# Altium footprint library eitp15_lab1_lib.PcbLib: 15 footprints
Each footprint in its own frame and in the unit in brackets; x right, y up, seen from the top. Pads: shape width x height; smd on the part's side, far side on the other; paste and mask are expansions set on the pad; w line width, h text height; cw(c..) or ccw(c..) is an arc to the next point about the centre after c.
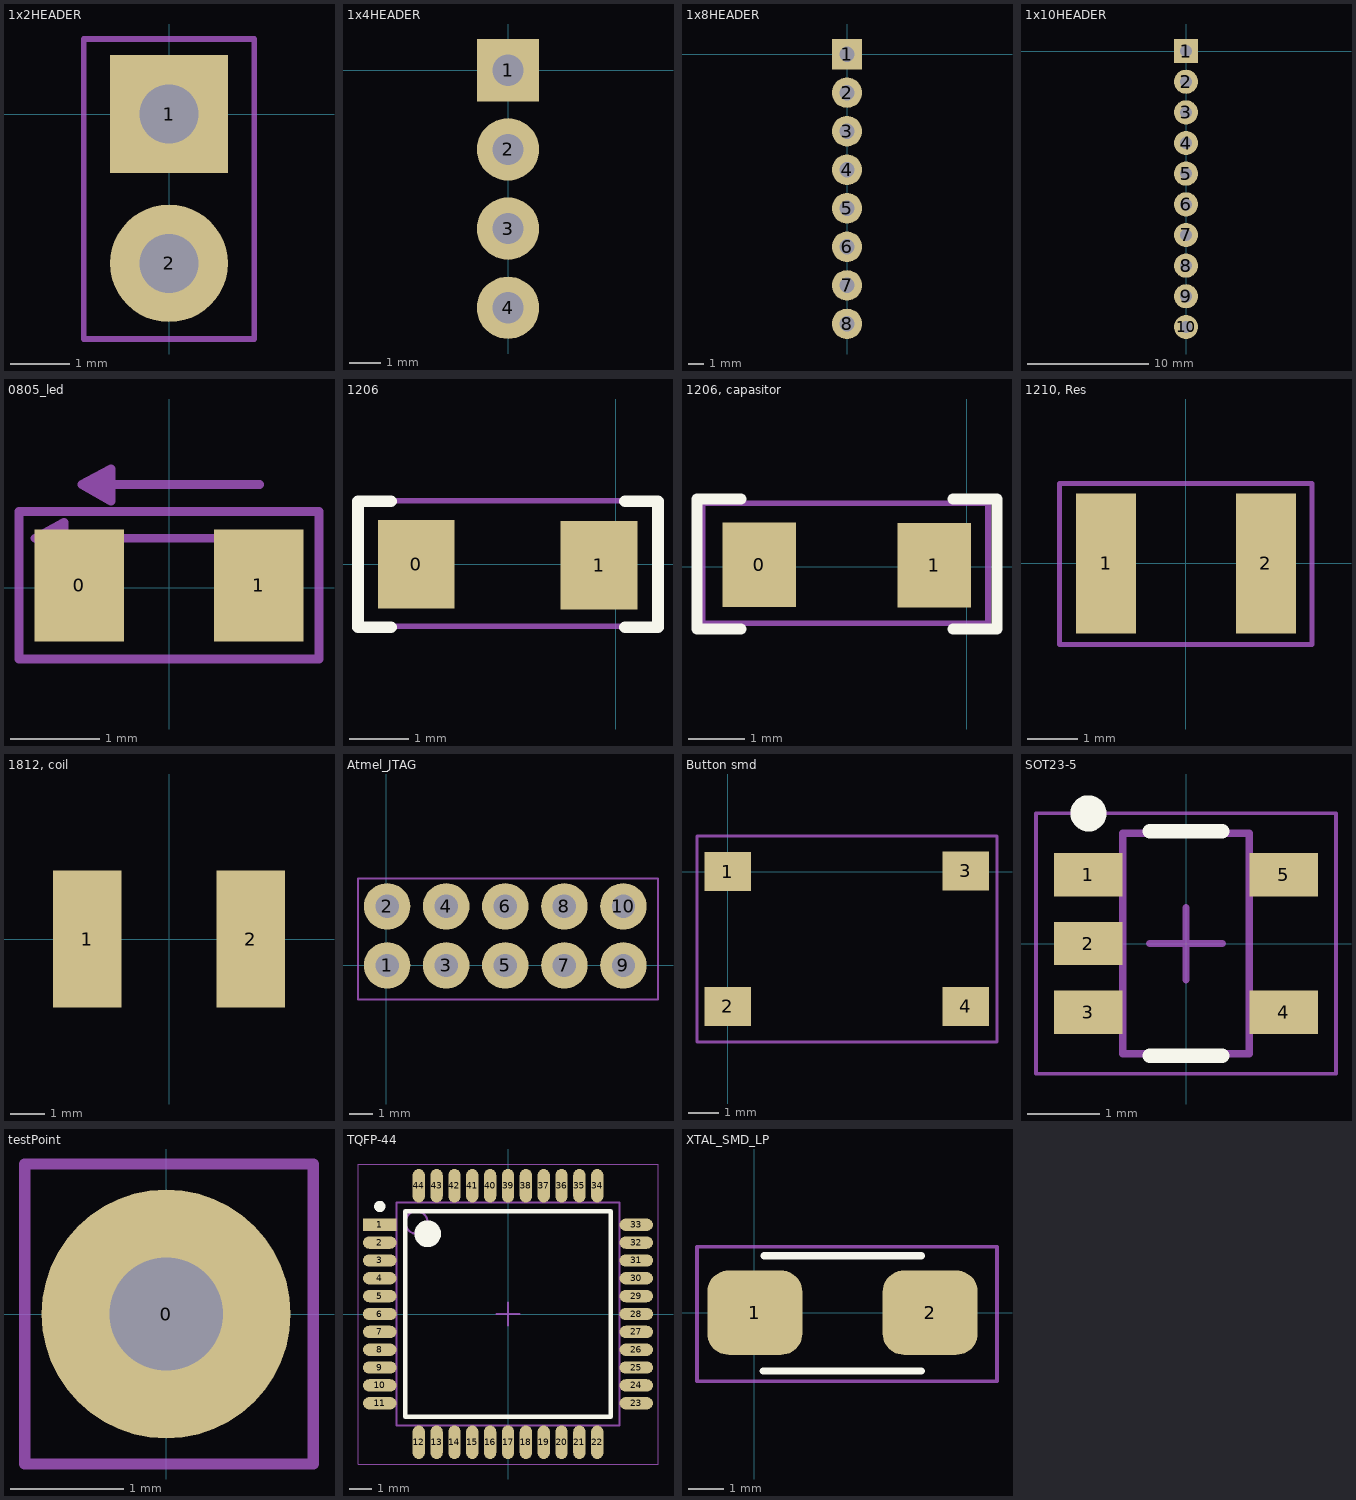
[diagram p0: the footprints below, top view; thin cyan lines are the x and y axes]

## 1x2HEADER [mm] "Pad Diameter 2 mm, Hole  1 mm, Pitch 2.54 mm"
pads (2):
  rect 2x2 hole 1: 1(0,0)
  round 2 hole 1: 2(0,-2.54)
Mechanical 13:
  lines w0.1: -1.45,-3.825 -1.45,1.275 1.45,1.275 1.45,-3.825 -1.45,-3.825
  text ".Designator" at 0.35,-3.275 h1
3D body "User Library-Header Vertical 2_54mm Pitch2-1.STEP": height 5.94, standoff -2.94, extent -1.27,-3.81 1.27,-1.27
3D body "User Library-Header Vertical 2_54mm Pitch2-1.STEP": height 5.94, standoff -2.94, extent -1.27,-1.27 1.27,1.27

## 1x4HEADER [mm] "Pad Diameter 2 mm, Hole  1 mm, Pitch 2.54 mm"
pads (4):
  rect 2x2 hole 1: 1(0,0)
  round 2 hole 1: 2(0,-2.54) 3(0,-5.08) 4(0,-7.62)
3D body "User Library-Header Vertical 2_54mm Pitch2-1.STEP": height 5.94, standoff -2.94, extent -1.27,-3.81 1.27,-1.27
3D body "User Library-Header Vertical 2_54mm Pitch2-1.STEP": height 5.94, standoff -2.94, extent -1.27,-1.27 1.27,1.27
3D body "User Library-Header Vertical 2_54mm Pitch2-1.STEP": height 5.94, standoff -2.94, extent -1.27,-6.35 1.27,-3.81
3D body "User Library-Header Vertical 2_54mm Pitch2-1.STEP": height 5.94, standoff -2.94, extent -1.27,-8.89 1.27,-6.35

## 1x8HEADER [mm] "Pad Diameter 2 mm, Hole  1 mm, Pitch 2.54 mm"
pads (8):
  rect 2x2 hole 1: 1(0,0)
  round 2 hole 1: 2(0,-2.54) 3(0,-5.08) 4(0,-7.62) 5(0,-10.16) 6(0,-12.7) 7(0,-15.24) 8(0,-17.78)
3D body "User Library-Header Vertical 2_54mm Pitch2-1.STEP": height 5.94, standoff -2.94, extent -1.27,-19.05 1.27,-16.51
3D body "User Library-Header Vertical 2_54mm Pitch2-1.STEP": height 5.94, standoff -2.94, extent -1.27,-16.51 1.27,-13.97
3D body "User Library-Header Vertical 2_54mm Pitch2-1.STEP": height 5.94, standoff -2.94, extent -1.27,-13.97 1.27,-11.43
3D body "User Library-Header Vertical 2_54mm Pitch2-1.STEP": height 5.94, standoff -2.94, extent -1.27,-11.43 1.27,-8.89
3D body "User Library-Header Vertical 2_54mm Pitch2-1.STEP": height 5.94, standoff -2.94, extent -1.27,-8.89 1.27,-6.35
3D body "User Library-Header Vertical 2_54mm Pitch2-1.STEP": height 5.94, standoff -2.94, extent -1.27,-6.35 1.27,-3.81
3D body "User Library-Header Vertical 2_54mm Pitch2-1.STEP": height 5.94, standoff -2.94, extent -1.27,-3.81 1.27,-1.27
3D body "User Library-Header Vertical 2_54mm Pitch2-1.STEP": height 5.94, standoff -2.94, extent -1.27,-1.27 1.27,1.27

## 1x10HEADER [mm] "Pad Diameter 2 mm, Hole  1 mm, Pitch 2.54 mm"
pads (10):
  rect 2x2 hole 1: 1(0,0)
  round 2 hole 1: 2(0,-2.54) 3(0,-5.08) 4(0,-7.62) 5(0,-10.16) 6(0,-12.7) 7(0,-15.24) 8(0,-17.78) 9(0,-20.32) 10(0,-22.86)
3D body "User Library-Header Vertical 2_54mm Pitch2-1.STEP": height 5.94, standoff -2.94, extent -1.27,-21.59 1.27,-19.05
3D body "User Library-Header Vertical 2_54mm Pitch2-1.STEP": height 5.94, standoff -2.94, extent -1.27,-24.13 1.27,-21.59
3D body "User Library-Header Vertical 2_54mm Pitch2-1.STEP": height 5.94, standoff -2.94, extent -1.27,-19.05 1.27,-16.51
3D body "User Library-Header Vertical 2_54mm Pitch2-1.STEP": height 5.94, standoff -2.94, extent -1.27,-16.51 1.27,-13.97
3D body "User Library-Header Vertical 2_54mm Pitch2-1.STEP": height 5.94, standoff -2.94, extent -1.27,-13.97 1.27,-11.43
3D body "User Library-Header Vertical 2_54mm Pitch2-1.STEP": height 5.94, standoff -2.94, extent -1.27,-11.43 1.27,-8.89
3D body "User Library-Header Vertical 2_54mm Pitch2-1.STEP": height 5.94, standoff -2.94, extent -1.27,-8.89 1.27,-6.35
3D body "User Library-Header Vertical 2_54mm Pitch2-1.STEP": height 5.94, standoff -2.94, extent -1.27,-6.35 1.27,-3.81
3D body "User Library-Header Vertical 2_54mm Pitch2-1.STEP": height 5.94, standoff -2.94, extent -1.27,-3.81 1.27,-1.27
3D body "User Library-Header Vertical 2_54mm Pitch2-1.STEP": height 5.94, standoff -2.94, extent -1.27,-1.27 1.27,1.27

## 0805_led [mm]
pads (2):
  rect 1x1.25 smd: 0(-1,0.025) 1(1,0.025)
Mechanical 13:
  lines w0.1: 0.485,0.55 -1.498,0.55 ; 1.01,1.15 -0.972,1.15 ; -1.498,0.55 -1.175,0.725 ; -1.498,0.55 -1.175,0.367 ; -1.175,0.367 -1.175,0.725 ; -1.175,0.367 -1.282,0.55 -1.175,0.725 ; -0.972,1.15 -0.65,0.968 ; -0.972,1.15 -0.65,1.325 ; -0.65,0.968 -0.757,1.15 -0.65,1.325 ; -0.65,0.968 -0.65,1.325 ; -1.675,-0.8 -1.675,0.85 1.675,0.85 1.675,-0.8 -1.675,-0.8
  text ".Designator" at -1.425,-0.65 h0.4
3D body "User Library-led_0805.STEP": height 1.1, standoff 0, extent -1.035,-0.6 0.985,0.65

## 1206 [mm] "Generic 1206"
pads (2):
  rect 1.3x1.5 smd: 0(-3.384,-0.003) 1(-0.286,-0.014)
Top Overlay:
  lines w0.2: -3.81,-1.067 -4.369,-1.067 -4.369,1.067 -3.81,1.067 ; 0.152,-1.067 0.711,-1.067 0.711,1.067 0.152,1.067
Mechanical 13:
  lines w0.1: -4.35,-1.05 0.7,-1.05 0.7,1.075 -4.35,1.075 -4.35,-1.05
  text ".Designator" at -3.6,-0.425 h1
3D body "User Library-R_1206.STEP": height -0.4, standoff -1, extent -3.465,-0.793 -0.265,0.807

## 1206, capasitor [mm] "Generic 1206"
pads (2):
  rect 1.3x1.5 smd: 0(-3.673,0.038) 1(-0.575,0.026)
Top Overlay:
  lines w0.2: -4,-1.1 -4.775,-1.1 -4.775,-1 -4.775,-0.767 -4.775,0.843 -4.775,1.2 -4,1.2 ; -0.242,-1.1 0.533,-1.1 0.533,1.2 -0.242,1.2
Mechanical 13:
  lines w0.1: -4.675,-1 -4.675,1.125 0.375,1.125 0.375,-1 -4.675,-1
  text ".Designator" at -3.925,-0.375 h1
3D body "User Library-cap_1206_0_95.STEP": height -0.55, standoff -1.5, extent -3.776,-0.786 -0.576,0.814

## 1210, Res [mm]
pads (2):
  rect 1.2x2.8 smd: 1(-1.6,0) 2(1.6,0)
Mechanical 13:
  lines w0.1: -2.525,-1.625 -2.525,1.6 2.525,1.6 2.525,-1.625 -2.525,-1.625
  text ".Designator" at -1.775,-0.375 h1
3D body "R_1210.STEP": height 0.6, standoff 0, extent -1.6,-1.25 1.6,1.25

## 1812, coil [mm]
pads (2):
  rect 2x4 smd: 1(-2.385,0) 2(2.385,0)
3D body "cap_1812.step": height 2.6, standoff 0, extent -2.3,-1.6 2.3,1.6

## Atmel_JTAG [mm]
pads (10):
  round 2 hole 1: 1(0.028,-0.01) 2(0.028,2.53) 3(2.568,-0.01) 4(2.568,2.53) 5(5.108,-0.01) 6(5.108,2.53) 7(7.648,-0.01) 8(7.648,2.53) 9(10.188,-0.01) 10(10.188,2.53)
Mechanical 13:
  lines w0.1: -1.225,-1.475 -1.225,3.725 11.675,3.725 11.675,-1.475 -1.225,-1.475
  text ".Designator" at -0.35,0.925 h1
3D body "12539.stp": height 8.6, standoff -3.2, extent -1.147,-1.36 11.553,3.64

## Button smd [mm]
pads (4):
  rect 1.55x1.3 smd: 1(0,0) 2(0,-4.5) 3(7.95,0.023) 4(7.95,-4.5)
Mechanical 13:
  lines w0.1: -1.025,-5.7 -1.025,1.2 9,1.2 9,-5.7 -1.025,-5.7
  text ".Designator" at 0.325,-2.475 h1
3D body "User Library-PTS645SL43SMTR92-LFS.STEP": height 4.3, standoff 0, extent -0.55,-5.25 8.45,0.75

## SOT23-5 [mm] "SOT23, 5-Leads, Body 2,90x2,80mm, Pitch 0,95mm, IPC Medium Density"
height 1.1
pads (5):
  rect 0.95x0.6 smd: 1(-1.35,0.95) 2(-1.35,0) 3(-1.35,-0.95) 4(1.35,-0.95) 5(1.35,0.95)
Top Overlay:
  circle w0.25: c-1.35,1.8 r0.125
  lines w0.2: -0.5,-1.55 0.5,-1.55 ; -0.5,1.55 0.5,1.55
Mechanical 13:
  lines w0.1: -0.875,-1.525 0.875,-1.525 0.875,1.525 -0.875,1.525 -0.875,-1.525
Mechanical 15:
  lines w0.05: -2.075,-1.8 2.075,-1.8 2.075,1.8 -2.075,1.8 -2.075,-1.8
  lines w0.1: -0.5,0 0.5,0 ; 0,-0.5 0,0.5
3D body "SW3DPS-SOT-23-5-DEFAULT.STEP": height 1.1, standoff 0, extent -1.25,-1.5 1.25,1.5

## testPoint [mm] "Diameter 2mm, Hole 0.3mm"
pads (1):
  round 2.2 hole 1: 0(0,0)
Mechanical 13:
  lines w0.1: -1.25,-1.325 1.3,-1.325 1.3,1.325 -1.25,1.325 -1.25,-1.325
  text ".Designator" at -1.075,-0.525 h0.4
3D body "User Library-TEST POINT.STEP": height 4.36, standoff -2.57, extent -1.27,-1.315 1.27,1.318

## TQFP-44 [mm] "QFP, 44-Leads, Body 10,00x10,00mm, Pitch 0,80mm, IPC Medium Density"
height 2.45
pads (44):
  rect 1.5x0.55 smd: 1(-5.75,4)
  oval 1.5x0.55 smd: 2(-5.75,3.2) 3(-5.75,2.4) 4(-5.75,1.6) 5(-5.75,0.8) 6(-5.75,0) 7(-5.75,-0.8) 8(-5.75,-1.6) 9(-5.75,-2.4) 10(-5.75,-3.2) 11(-5.75,-4) 23(5.75,-4) 24(5.75,-3.2) 25(5.75,-2.4) 26(5.75,-1.6) 27(5.75,-0.8) 28(5.75,0) 29(5.75,0.8) 30(5.75,1.6) 31(5.75,2.4) 32(5.75,3.2) 33(5.75,4)
  oval 0.55x1.5 smd: 12(-4,-5.75) 13(-3.2,-5.75) 14(-2.4,-5.75) 15(-1.6,-5.75) 16(-0.8,-5.75) 17(0,-5.75) 18(0.8,-5.75) 19(1.6,-5.75) 20(2.4,-5.75) 21(3.2,-5.75) 22(4,-5.75) 34(4,5.75) 35(3.2,5.75) 36(2.4,5.75) 37(1.6,5.75) 38(0.8,5.75) 39(0,5.75) 40(-0.8,5.75) 41(-1.6,5.75) 42(-2.4,5.75) 43(-3.2,5.75) 44(-4,5.75)
Top Overlay:
  circle w0.25: c-5.75,4.825 r0.125
  circle w0.6: c-3.6,3.6 r0.3
  lines w0.2: -4.6,-4.6 -4.6,4.6 4.6,4.6 4.6,-4.6 -4.6,-4.6
Mechanical 13:
  circle w0.1: c-4.1,4.1 r0.5
  lines w0.1: -5,-5 -5,5 5,5 5,-5 -5,-5
Mechanical 15:
  lines w0.05: -6.725,-6.725 -6.725,6.725 6.725,6.725 6.725,-6.725 -6.725,-6.725
  lines w0.1: -0.5,0 0.5,0 ; 0,-0.5 0,0.5
3D body "User Library-TQFP-44-1.STEP": height 1.1, standoff 0, extent -6,-6 6,6

## XTAL_SMD_LP [mm] "Pad 1.7x2.4, Pitch 3.7"
pads (2):
  rrect50% 2.7x2.4 smd: 1(0.02,0) 2(5,0)
Top Overlay:
  lines w0.2: 0.255,-1.657 4.755,-1.657 ; 0.28,1.617 4.755,1.617
Mechanical 13:
  lines w0.1: -1.625,-1.95 -1.625,1.875 6.9,1.875 6.9,-1.95 -1.625,-1.95
  text ".Designator" at -1.175,-0.675 h1
3D body "User Library-445-CRYTAL-SMD.STEP": height 1.35, standoff 0, extent 0.02,-1.6 5.02,1.6